# EAGLE library part WEBP88_D (library PoJD)
RJ konektor WEBP 8-8 SHIELDED DVOJITY. http://www.gme.cz/rj-konektor-webp-8-8-shielded-dvojity-p833-064
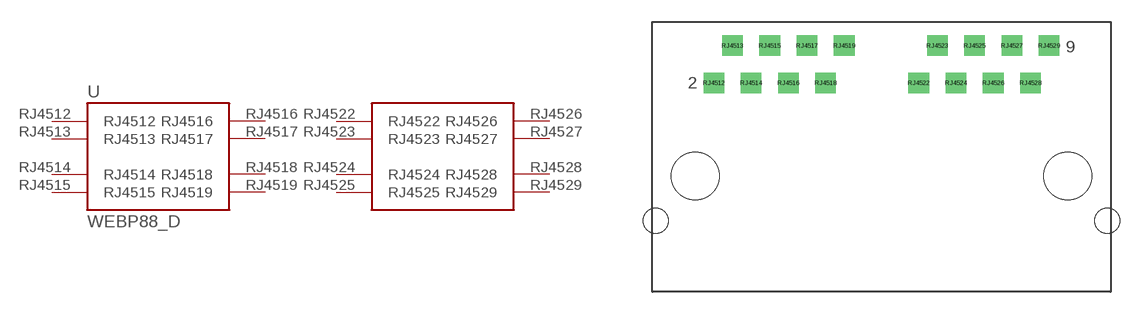
[diagram p0: symbol with the pads of WEBP88_RJ45_DOUBLE; footprint WEBP88_RJ45_DOUBLE]

Designator prefix -

## WEBP88_DDOUBLE  [WEBP88_RJ45_DOUBLE]
RJ4512  RJ4512
RJ4513  RJ4513
RJ4514  RJ4514
RJ4515  RJ4515
RJ4516  RJ4516
RJ4517  RJ4517
RJ4518  RJ4518
RJ4519  RJ4519
RJ4522  RJ4522
RJ4523  RJ4523
RJ4524  RJ4524
RJ4525  RJ4525
RJ4526  RJ4526
RJ4527  RJ4527
RJ4528  RJ4528
RJ4529  RJ4529

## Footprint WEBP88_RJ45_DOUBLE (pad centres in mm)
RJ konektor WEBP 8-8 SHIELDED DVOJITY. http://www.gme.cz/rj-konektor-webp-8-8-shielded-dvojity-p833-064
drill 0.9 square: RJ4512 -11.43,5.05; RJ4513 -10.16,7.59; RJ4514 -8.89,5.05; RJ4515 -7.62,7.59; RJ4516 -6.35,5.05; RJ4517 -5.08,7.59; RJ4518 -3.81,5.05; RJ4519 -2.54,7.59; RJ4522 2.54,5.05; RJ4523 3.81,7.59; RJ4524 5.08,5.05; RJ4525 6.35,7.59; RJ4526 7.62,5.05; RJ4527 8.89,7.59; RJ4528 10.16,5.05; RJ4529 11.43,7.59
hole 3.25 at -12.7,-1.3
hole 3.25 at 12.7,-1.3
hole 1.7 at -15.38,-4.35
hole 1.7 at 15.38,-4.35